# Altium footprint library Fixing Accessories.PcbLib: 3 footprints
Each footprint in its own frame and in the unit in brackets; x right, y up, seen from the top. Pads: shape width x height; smd on the part's side, far side on the other; paste and mask are expansions set on the pad; w line width, h text height; cw(c..) or ccw(c..) is an arc to the next point about the centre after c.
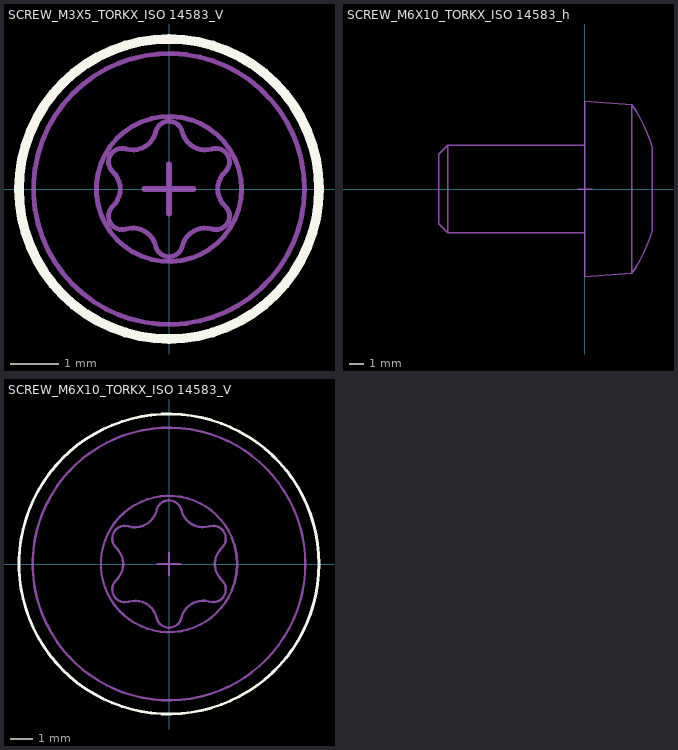
[diagram p0: the footprints below, top view; thin cyan lines are the x and y axes]

## SCREW_M3X5_TORKX_ISO 14583_V [mm] "Vis TORKX M3X5 ISO 14583 - Vertical Mounting"
height 10
Top Overlay:
  circle w0.2: c0,0 r3.1
Mechanical 8:
  lines w0.127: -0.5,0 0,0 ; 0,-0.5 0,0 ; 0,0.5 0,0 ; 0.5,0 0,0
Mechanical 14:
  circle w0.1: c0,0 r2.8
  circle w0.1: c0,0 r1.5
  lines w0.1: -1.162,-0.356 ccw(c-1.498,0) -1.162,0.356 cw(c-0.97,0.56) -0.89,0.828 ccw(c-0.749,1.298) -0.267,1.21 cw(c-0.001,1.119) 0.272,1.186 ccw(c0.749,1.298) 0.89,0.828 cw(c0.97,0.56) 1.162,0.356 ccw(c1.498,0) 1.162,-0.356 cw(c0.97,-0.56) 0.887,-0.828 ccw(c0.749,-1.298) 0.272,-1.185 cw(c0,-1.12) -0.272,-1.185 ccw(c-0.749,-1.298) -0.89,-0.828 cw(c-0.97,-0.56) -1.162,-0.356
3D body: height 2.4, standoff -5, extent -2.8,-2.8 2.8,2.8

## SCREW_M6X10_TORKX_ISO 14583_h [mm] "Vis TORKX M6X10 ISO 14583 - Horizontal Mount"
height 12
Mechanical 8:
  lines w0.1: -0.5,0 0,0 ; 0,-0.5 0,0 ; 0,0.5 0,0 ; 0.5,0 0,0
Mechanical 14:
  lines w0.1: 0,-3 -9.387,-3 ; 0,3 -9.387,3 ; -9.387,-3 -9.387,3 ; -9.387,-3 -10,-2.387 -10,2.387 -9.387,3 ; 3.225,-5.775 ccw(c-5.257,0) 4.6,-2.85 4.6,2.85 ccw(c-5.257,0) 3.225,5.775 ; 3.225,-5.775 3.225,5.775 ; 3.225,-5.775 0,-6 0,6 3.225,5.775
3D body: height 6, standoff -6, extent -10,-6 4.6,6

## SCREW_M6X10_TORKX_ISO 14583_V [mm] "Vis TORKX M6X10 ISO 14583 - Vertical Mounting"
height 10
Top Overlay:
  circle w0.127: c0,0 r6.6
Mechanical 8:
  lines w0.1: -0.5,0 0,0 ; 0,-0.5 0,0 ; 0,0.5 0,0 ; 0.5,0 0,0
Mechanical 14:
  circle w0.1: c0,0 r3
  circle w0.1: c0,0 r6
  lines w0.1: -2.324,-0.713 ccw(c-1.94,-1.12) -1.779,-1.656 cw(c-1.498,-2.595) -0.545,-2.369 ccw(c0,-2.24) 0.545,-2.369 cw(c1.499,-2.596) 1.774,-1.655 ccw(c1.94,-1.12) 2.324,-0.713 cw(c2.997,0) 2.324,0.713 ccw(c1.94,1.12) 1.779,1.656 cw(c1.498,2.595) 0.544,2.372 ccw(c-0.002,2.237) -0.534,2.421 cw(c-1.498,2.595) -1.779,1.656 ccw(c-1.94,1.12) -2.324,0.713 cw(c-2.997,0) -2.324,-0.713
3D body: height 4.6, standoff -10, extent -6,-6 6,6